# Altium footprint library Shunt R.PcbLib: 3 footprints
Each footprint in its own frame and in the unit in brackets; x right, y up, seen from the top. Pads: shape width x height; smd on the part's side, far side on the other; paste and mask are expansions set on the pad; w line width, h text height; cw(c..) or ccw(c..) is an arc to the next point about the centre after c.
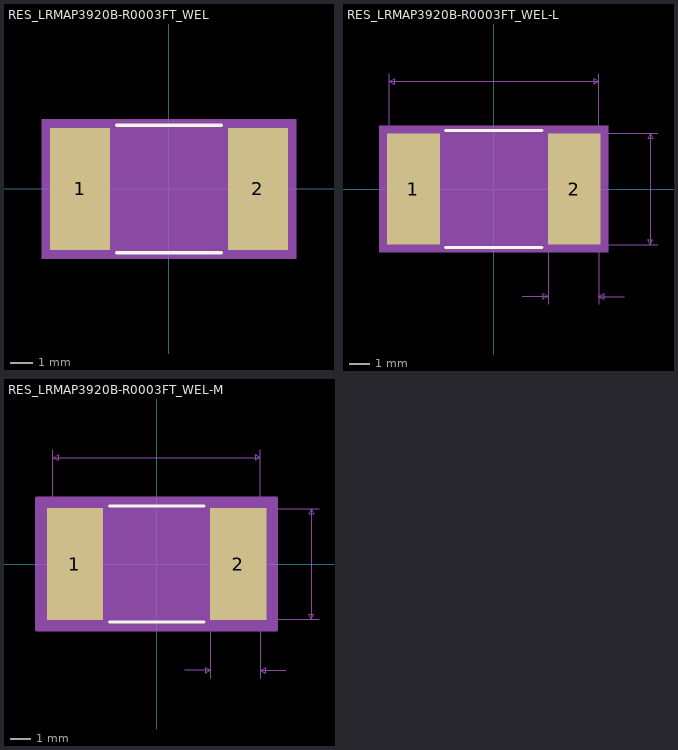
[diagram p0: the footprints below, top view; thin cyan lines are the x and y axes]

## RES_LRMAP3920B-R0003FT_WEL [mil]
pads (2):
  rect 106x217 smd paste+0 mask+0: 1(-158,0) 2(158,0)
Top Overlay:
  lines w6: -92.89,-113.5 92.89,-113.5 ; -92.89,113.5 92.89,113.5
Mechanical 5:
  region: 226,-123.5 -226,-123.5 -226,123.5 226,123.5
Mechanical 13:
  lines w1: -203,-108.5 -203,108.5 ; -203,-108.5 203,-108.5 ; -203,-108.5 -105,-108.5 -105,108.5 -203,108.5 ; -203,-108.5 -203,108.5 ; -203,108.5 203,108.5 ; 203,-108.5 203,108.5 ; 203,-108.5 203,108.5 ; 203,-108.5 105,-108.5 105,108.5 203,108.5
Mechanical 15:
  region: 221,-118.5 -221,-118.5 -221,118.5 221,118.5
  lines w6: -221,-118.5 221,-118.5 221,118.5 -221,118.5 -221,-118.5
3D body: height 10, standoff 0, extent 0,0 10,10

## RES_LRMAP3920B-R0003FT_WEL-L [mil]
pads (2):
  rect 102x215 smd paste+0 mask+0: 1(-156,0) 2(156,0)
Top Overlay:
  lines w6: -93.35,-113.5 93.35,-113.5 ; -93.35,113.5 93.35,113.5
Mechanical 5:
  region: 222,-122.5 -222,-122.5 -222,122.5 222,122.5
Mechanical 7:
  lines w1: -203,0 -203,223.5 ; 0,-108.5 318,-108.5 ; 0,108.5 318,108.5 ; 55,-208.5 105,-208.5 ; 105,-223.5 105,0 ; 203,-223.5 203,0 203,223.5 ; 253,-208.5 203,-208.5 ; -203,208.5 203,208.5 ; -203,208.5 -193,213.5 -193,203.5 -203,208.5 ; 105,-208.5 95,-203.5 95,-213.5 105,-208.5 ; 203,-208.5 213,-203.5 213,-213.5 203,-208.5 ; 203,208.5 193,213.5 193,203.5 203,208.5 ; 303,-108.5 303,108.5 ; 303,-108.5 298,-98.5 308,-98.5 303,-108.5 ; 303,108.5 298,98.5 308,98.5 303,108.5
  text "Default Padstyle: RX102Y215D0T" at -375,-377.5 h50
  text "Alt 1 Padstyle: OX60Y90D30P" at -337.5,-437.5 h50
  text "Alt 2 Padstyle: OX90Y60D30P" at -337.5,-497.5 h50
  text "0.217in/5.512mm" at 323,-12.5 h25
  text "0.406in/10.312mm" at -100,228.5 h25
  text "0.098in/2.489mm" at 60.25,-253.5 h25
Mechanical 13:
  lines w1: -203,-108.5 -203,108.5 ; -203,-108.5 -105,-108.5 -105,108.5 -203,108.5 ; -203,-108.5 203,-108.5 ; -203,-108.5 -203,108.5 ; -203,108.5 203,108.5 ; 203,-108.5 105,-108.5 105,108.5 203,108.5 ; 203,-108.5 203,108.5 ; 203,-108.5 203,108.5
Mechanical 15:
  region: 211,-111.5 -211,-111.5 -211,111.5 211,111.5
  lines w6: -211,-111.5 -211,111.5 211,111.5 211,-111.5 -211,-111.5
3D body: height 10, standoff 0, extent 0,0 10,10

## RES_LRMAP3920B-R0003FT_WEL-M [mil]
pads (2):
  rect 110x219 smd paste+0 mask+0: 1(-160,0) 2(160,0)
Top Overlay:
  lines w6: -92.53,-113.5 92.53,-113.5 ; -92.53,113.5 92.53,113.5
Mechanical 5:
  region: 230,-124.5 -230,-124.5 -230,124.5 230,124.5
Mechanical 7:
  lines w1: -203,0 -203,223.5 ; 0,-108.5 318,-108.5 ; 0,108.5 318,108.5 ; 55,-208.5 105,-208.5 ; 105,-223.5 105,0 ; 203,-223.5 203,0 203,223.5 ; 253,-208.5 203,-208.5 ; -203,208.5 203,208.5 ; -203,208.5 -193,213.5 -193,203.5 -203,208.5 ; 105,-208.5 95,-203.5 95,-213.5 105,-208.5 ; 203,-208.5 213,-203.5 213,-213.5 203,-208.5 ; 203,208.5 193,213.5 193,203.5 203,208.5 ; 303,-108.5 303,108.5 ; 303,-108.5 298,-98.5 308,-98.5 303,-108.5 ; 303,108.5 298,98.5 308,98.5 303,108.5
  text "Default Padstyle: RX110Y219D0T" at -375,-379.5 h50
  text "Alt 1 Padstyle: OX60Y90D30P" at -337.5,-439.5 h50
  text "Alt 2 Padstyle: OX90Y60D30P" at -337.5,-499.5 h50
  text "0.217in/5.512mm" at 323,-12.5 h25
  text "0.406in/10.312mm" at -100,228.5 h25
  text "0.098in/2.489mm" at 60.25,-253.5 h25
Mechanical 13:
  lines w1: -203,-108.5 -203,108.5 ; -203,-108.5 -105,-108.5 -105,108.5 -203,108.5 ; -203,-108.5 203,-108.5 ; -203,-108.5 -203,108.5 ; -203,108.5 203,108.5 ; 203,-108.5 105,-108.5 105,108.5 203,108.5 ; 203,-108.5 203,108.5 ; 203,-108.5 203,108.5
Mechanical 15:
  region: 235,-129.5 -235,-129.5 -235,129.5 235,129.5
  lines w6: -235,-129.5 -235,129.5 235,129.5 235,-129.5 -235,-129.5
3D body: height 10, standoff 0, extent 0,0 10,10